# Altium schematic symbol library CGRA_schlib.SchLib: 80 symbols (part 2 of 3)
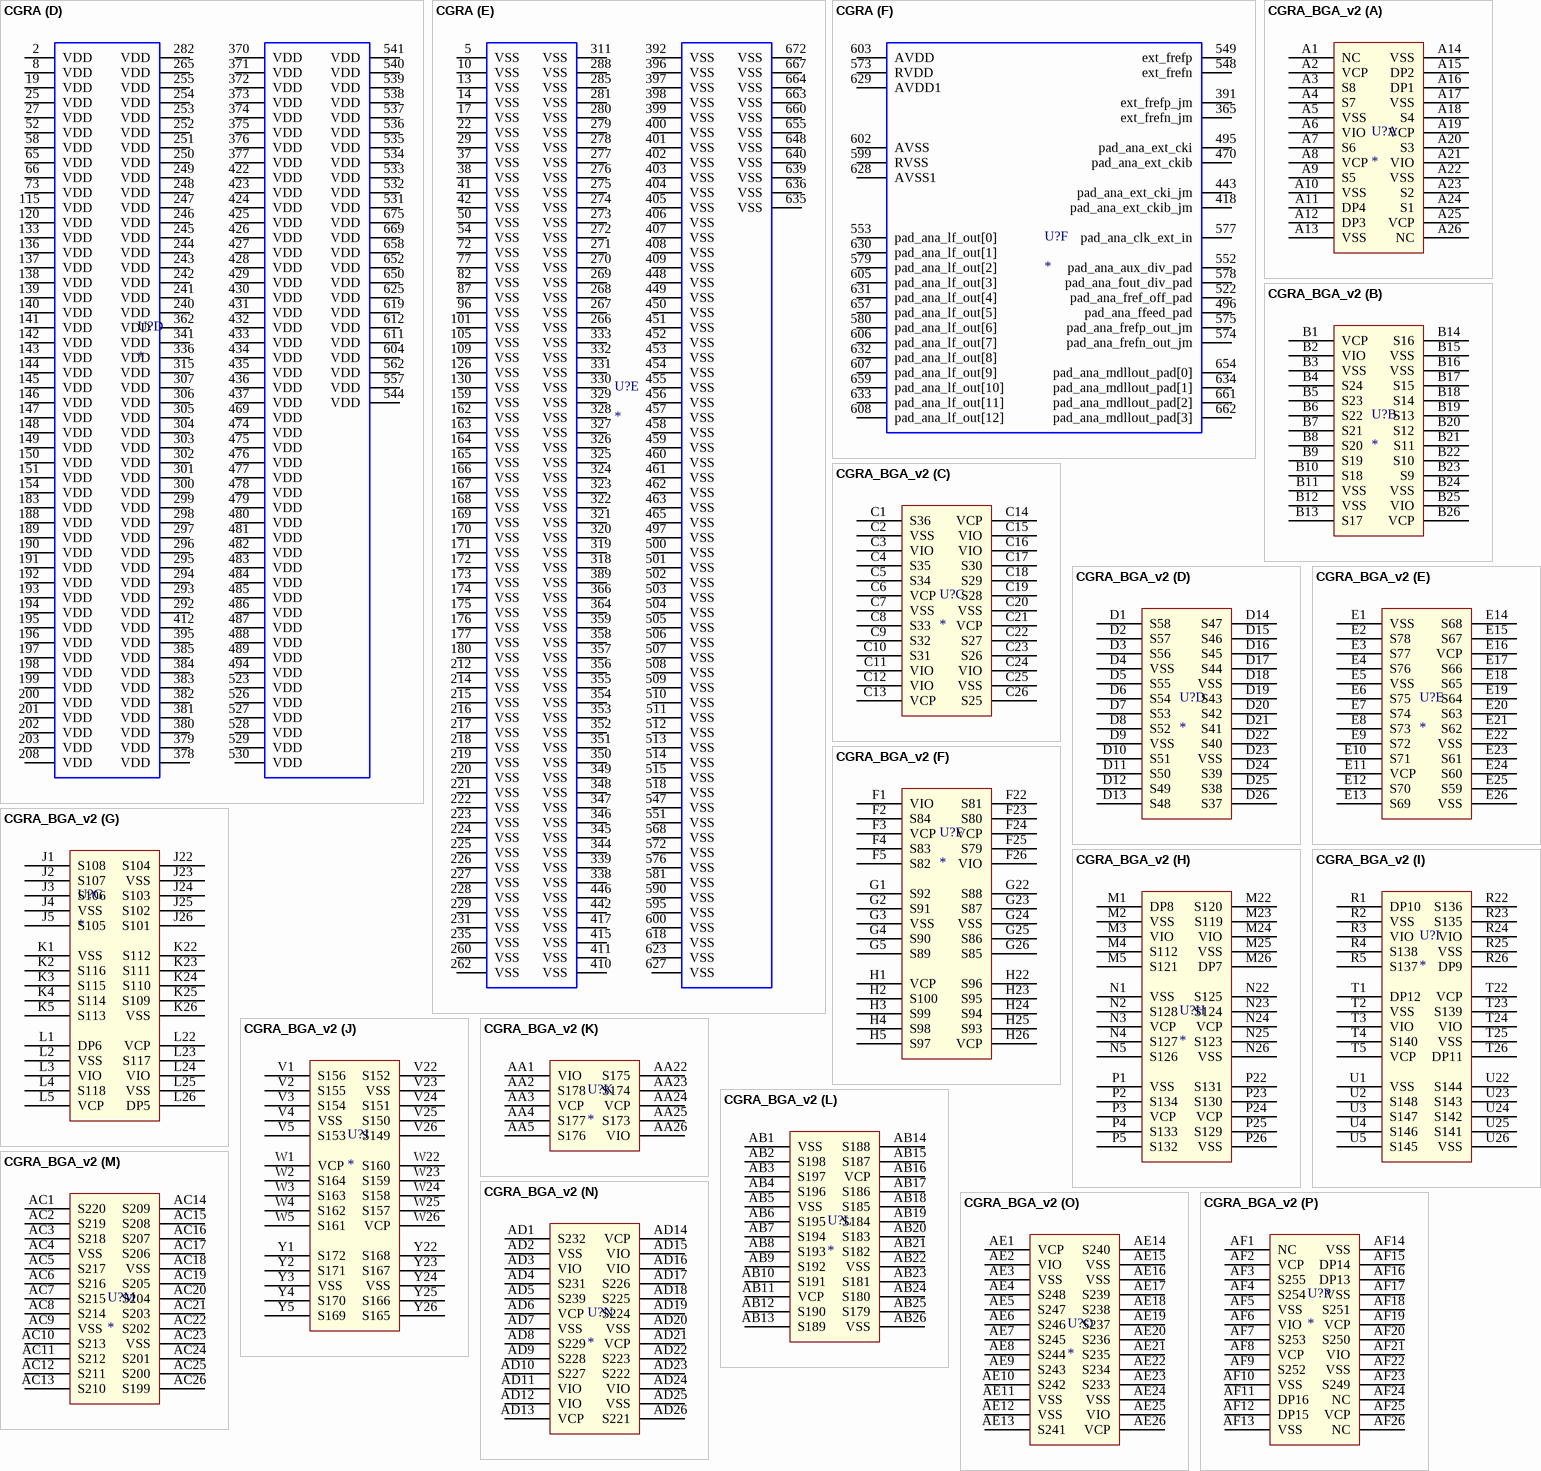
[diagram p4: symbols CGRA to CGRA_BGA_v2]

## CGRA
designator U?
Pads
footprint BGA676x26
part A pins: 3 NC, 26 NC, 30 NC, 32 NC, 33 NC, 35 NC, 36 NC, 43 NC, 44 NC, 46 NC, 47 NC, 48 NC, 49 NC, 56 NC, 57 NC, 59 NC, 60 NC, 61 NC, 62 NC, 69 NC, 70 NC, 71 NC, 74 NC, 75 NC, 83 NC, 84 NC, 85 NC, 86 NC, 88 NC, 89 NC, 90 NC, 91 NC, 92 NC, 93 NC, 94 NC, 95 NC, 97 NC, 98 NC, 99 NC, 100 NC, 102 NC, 103 NC, 107 NC, 108 NC, 110 NC, 111 NC, 112 NC, 113 NC, 114 NC, 116 NC, 117 NC, 118 NC, 119 NC, 121 NC, 122 NC, 123 NC, 124 NC, 125 NC, 127 NC, 128 NC, 129 NC, 134 NC, 135 NC, 152 NC, 153 NC, 160 NC, 161 NC, 178 NC, 179 NC, 181 NC, 185 NC, 186 NC, 187 NC, 204 NC, 205 NC, 206 NC, 211 NC, 213 NC, 230 NC, 232 NC, 233 NC, 237 NC, 238 NC, 239 NC, 256 NC, 257 NC, 258 NC, 259 NC, 264 NC, 283 NC, 290 NC, 291 NC, 308 NC, 309 NC, 316 NC, 317 NC, 334 NC, 335 NC, 340 NC, 342 NC, 343 NC, 360 NC, 361 NC, 368 NC, 369 NC, 386 NC, 387 NC, 394 NC, 413 NC, 419 NC, 420 NC, 421 NC, 438 NC, 439 NC, 440 NC, 441 NC, 444 NC, 445 NC, 447 NC, 464 NC, 466 NC, 467 NC, 471 NC, 472 NC, 473 NC, 490 NC, 491 NC, 492 NC, 498 NC, 499 NC, 516 NC, 517 NC, 519 NC, 524 NC, 525 NC, 542 NC, 543 NC, 550 NC, 554 NC, 555 NC, 556 NC, 558 NC, 559 NC, 560 NC, 561 NC, 563 NC, 564 NC, 565 NC, 566 NC, 567 NC, 569 NC, 570 NC, 571 NC, 582 NC, 583 NC, 584 NC, 585 NC, 586 NC, 588 NC, 589 NC, 591 NC, 592 NC, 594 NC, 596 NC, 597 NC, 598 NC, 651 NC, 653 NC, 676 NC, A1 NC
part B pins: 4 pad_S1_T0, 7 pad_S1_T2, 9 pad_S1_T4, 11 pad_S1_T5, 12 pad_S1_T6, 15 pad_S1_T9, 16 pad_S1_T10, 18 pad_S1_T11, 20 pad_S1_T13, 23 pad_S1_T14, 24 pad_S1_T15, 31 pad_S1_T1, 34 pad_S1_T3, 39 pad_S1_T7, 40 pad_S1_T8, 45 pad_S1_T12, 53 pad_S2_T15, 78 pad_S0_T15, 79 pad_S2_T13, 80 pad_S2_T12, 81 pad_S2_T14, 104 pad_S0_T14, 106 pad_S2_T11, 132 pad_S2_T10, 155 pad_S0_T13, 157 pad_S2_T8, 158 pad_S2_T9, 182 pad_S0_T12, 184 pad_S2_T7, 207 pad_S0_T11, 209 pad_S2_T5, 210 pad_S2_T6, 234 pad_S0_T10, 236 pad_S2_T4, 261 pad_S2_T3, 286 pad_S0_T9, 287 pad_S2_T2, 312 pad_S0_T8, 313 pad_S2_T0, 314 pad_S2_T1, 337 pad_S0_T7, 363 pad_S0_T6, 390 pad_S0_T5, 416 pad_S0_T4, 468 pad_S0_T3, 493 pad_S0_T2, 520 pad_S0_T1, 545 pad_S0_T0, 587 pad_S3_T2, 593 pad_S3_T15, 615 pad_S3_T5, 616 pad_S3_T7, 617 pad_S3_T11, 620 pad_reset_in, 621 pad_tms, 624 pad_trst_n, 637 pad_S3_T0, 638 pad_S3_T1, 641 pad_S3_T6, 642 pad_S3_T9, 643 pad_S3_T10, 644 pad_S3_T13, 645 pad_S3_T14, 646 pad_clk_in, 647 pad_tdi, 665 pad_S3_T3, 666 pad_S3_T4, 668 pad_S3_T8, 670 pad_S3_T12, 673 pad_tdo, 674 pad_tck
part C pins: 6 VDDPST, 21 VDDPST, 28 VDDPST, 51 VDDPST, 55 VDDPST, 63 VDDPST, 64 VDDPST, 67 VDDPST, 68 VDDPST, 76 VDDPST, 131 VDDPST, 156 VDDPST, 263 VDDPST, 284 VDDPST, 289 VDDPST, 310 VDDPST, 367 VDDPST, 388 VDDPST, 393 VDDPST, 414 VDDPST, 521 VDDPST, 546 VDDPST, 601 VDDPST, 609 VDDPST, 610 VDDPST, 613 VDDPST, 614 VDDPST, 622 VDDPST, 626 VDDPST, 649 VDDPST, 656 VDDPST, 671 VDDPST
part D pins: 2 VDD, 8 VDD, 19 VDD, 25 VDD, 27 VDD, 52 VDD, 58 VDD, 65 VDD, 66 VDD, 73 VDD, 115 VDD, 120 VDD, 133 VDD, 136 VDD, 137 VDD, 138 VDD, 139 VDD, 140 VDD, 141 VDD, 142 VDD, 143 VDD, 144 VDD, 145 VDD, 146 VDD, 147 VDD, 148 VDD, 149 VDD, 150 VDD, 151 VDD, 154 VDD, 183 VDD, 188 VDD, 189 VDD, 190 VDD, 191 VDD, 192 VDD, 193 VDD, 194 VDD, 195 VDD, 196 VDD, 197 VDD, 198 VDD, 199 VDD, 200 VDD, 201 VDD, 202 VDD, 203 VDD, 208 VDD, 240 VDD, 241 VDD, 242 VDD, 243 VDD, 244 VDD, 245 VDD, 246 VDD, 247 VDD, 248 VDD, 249 VDD, 250 VDD, 251 VDD, 252 VDD, 253 VDD, 254 VDD, 255 VDD, 265 VDD, 282 VDD, 292 VDD, 293 VDD, 294 VDD, 295 VDD, 296 VDD, 297 VDD, 298 VDD, 299 VDD, 300 VDD, 301 VDD, 302 VDD, 303 VDD, 304 VDD, 305 VDD, 306 VDD, 307 VDD, 315 VDD, 336 VDD, 341 VDD, 362 VDD, 370 VDD, 371 VDD, 372 VDD, 373 VDD, 374 VDD, 375 VDD, 376 VDD, 377 VDD, 378 VDD, 379 VDD, 380 VDD, 381 VDD, 382 VDD, 383 VDD, 384 VDD, 385 VDD, 395 VDD, 412 VDD, 422 VDD, 423 VDD, 424 VDD, 425 VDD, 426 VDD, 427 VDD, 428 VDD, 429 VDD, 430 VDD, 431 VDD, 432 VDD, 433 VDD, 434 VDD, 435 VDD, 436 VDD, 437 VDD, 469 VDD, 474 VDD, 475 VDD, 476 VDD, 477 VDD, 478 VDD, 479 VDD, 480 VDD, 481 VDD, 482 VDD, 483 VDD, 484 VDD, 485 VDD, 486 VDD, 487 VDD, 488 VDD, 489 VDD, 494 VDD, 523 VDD, 526 VDD, 527 VDD, 528 VDD, 529 VDD, 530 VDD, 531 VDD, 532 VDD, 533 VDD, 534 VDD, 535 VDD, 536 VDD, 537 VDD, 538 VDD, 539 VDD, 540 VDD, 541 VDD, 544 VDD, 557 VDD, 562 VDD, 604 VDD, 611 VDD, 612 VDD, 619 VDD, 625 VDD, 650 VDD, 652 VDD, 658 VDD, 669 VDD, 675 VDD
part E pins: 5 VSS, 10 VSS, 13 VSS, 14 VSS, 17 VSS, 22 VSS, 29 VSS, 37 VSS, 38 VSS, 41 VSS, 42 VSS, 50 VSS, 54 VSS, 72 VSS, 77 VSS, 82 VSS, 87 VSS, 96 VSS, 101 VSS, 105 VSS, 109 VSS, 126 VSS, 130 VSS, 159 VSS, 162 VSS, 163 VSS, 164 VSS, 165 VSS, 166 VSS, 167 VSS, 168 VSS, 169 VSS, 170 VSS, 171 VSS, 172 VSS, 173 VSS, 174 VSS, 175 VSS, 176 VSS, 177 VSS, 180 VSS, 212 VSS, 214 VSS, 215 VSS, 216 VSS, 217 VSS, 218 VSS, 219 VSS, 220 VSS, 221 VSS, 222 VSS, 223 VSS, 224 VSS, 225 VSS, 226 VSS, 227 VSS, 228 VSS, 229 VSS, 231 VSS, 235 VSS, 260 VSS, 262 VSS, 266 VSS, 267 VSS, 268 VSS, 269 VSS, 270 VSS, 271 VSS, 272 VSS, 273 VSS, 274 VSS, 275 VSS, 276 VSS, 277 VSS, 278 VSS, 279 VSS, 280 VSS, 281 VSS, 285 VSS, 288 VSS, 311 VSS, 318 VSS, 319 VSS, 320 VSS, 321 VSS, 322 VSS, 323 VSS, 324 VSS, 325 VSS, 326 VSS, 327 VSS, 328 VSS, 329 VSS, 330 VSS, 331 VSS, 332 VSS, 333 VSS, 338 VSS, 339 VSS, 344 VSS, 345 VSS, 346 VSS, 347 VSS, 348 VSS, 349 VSS, 350 VSS, 351 VSS, 352 VSS, 353 VSS, 354 VSS, 355 VSS, 356 VSS, 357 VSS, 358 VSS, 359 VSS, 364 VSS, 366 VSS, 389 VSS, 392 VSS, 396 VSS, 397 VSS, 398 VSS, 399 VSS, 400 VSS, 401 VSS, 402 VSS, 403 VSS, 404 VSS, 405 VSS, 406 VSS, 407 VSS, 408 VSS, 409 VSS, 410 VSS, 411 VSS, 415 VSS, 417 VSS, 442 VSS, 446 VSS, 448 VSS, 449 VSS, 450 VSS, 451 VSS, 452 VSS, 453 VSS, 454 VSS, 455 VSS, 456 VSS, 457 VSS, 458 VSS, 459 VSS, 460 VSS, 461 VSS, 462 VSS, 463 VSS, 465 VSS, 497 VSS, 500 VSS, 501 VSS, 502 VSS, 503 VSS, 504 VSS, 505 VSS, 506 VSS, 507 VSS, 508 VSS, 509 VSS, 510 VSS, 511 VSS, 512 VSS, 513 VSS, 514 VSS, 515 VSS, 518 VSS, 547 VSS, 551 VSS, 568 VSS, 572 VSS, 576 VSS, 581 VSS, 590 VSS, 595 VSS, 600 VSS, 618 VSS, 623 VSS, 627 VSS, 635 VSS, 636 VSS, 639 VSS, 640 VSS, 648 VSS, 655 VSS, 660 VSS, 663 VSS, 664 VSS, 667 VSS, 672 VSS
part F pins: 365 ext_frefn_jm, 391 ext_frefp_jm, 418 pad_ana_ext_ckib_jm, 443 pad_ana_ext_cki_jm, 470 pad_ana_ext_ckib, 495 pad_ana_ext_cki, 496 pad_ana_ffeed_pad, 522 pad_ana_fref_off_pad, 548 ext_frefn, 549 ext_frefp, 552 pad_ana_aux_div_pad, 553 pad_ana_lf_out[0], 573 RVDD, 574 pad_ana_frefn_out_jm, 575 pad_ana_frefp_out_jm, 577 pad_ana_clk_ext_in, 578 pad_ana_fout_div_pad, 579 pad_ana_lf_out[2], 580 pad_ana_lf_out[6], 599 RVSS, 602 AVSS, 603 AVDD, 605 pad_ana_lf_out[3], 606 pad_ana_lf_out[7], 607 pad_ana_lf_out[9], 608 pad_ana_lf_out[12], 628 AVSS1, 629 AVDD1, 630 pad_ana_lf_out[1], 631 pad_ana_lf_out[4], 632 pad_ana_lf_out[8], 633 pad_ana_lf_out[11], 634 pad_ana_mdllout_pad[1], 654 pad_ana_mdllout_pad[0], 657 pad_ana_lf_out[5], 659 pad_ana_lf_out[10], 661 pad_ana_mdllout_pad[2], 662 pad_ana_mdllout_pad[3]

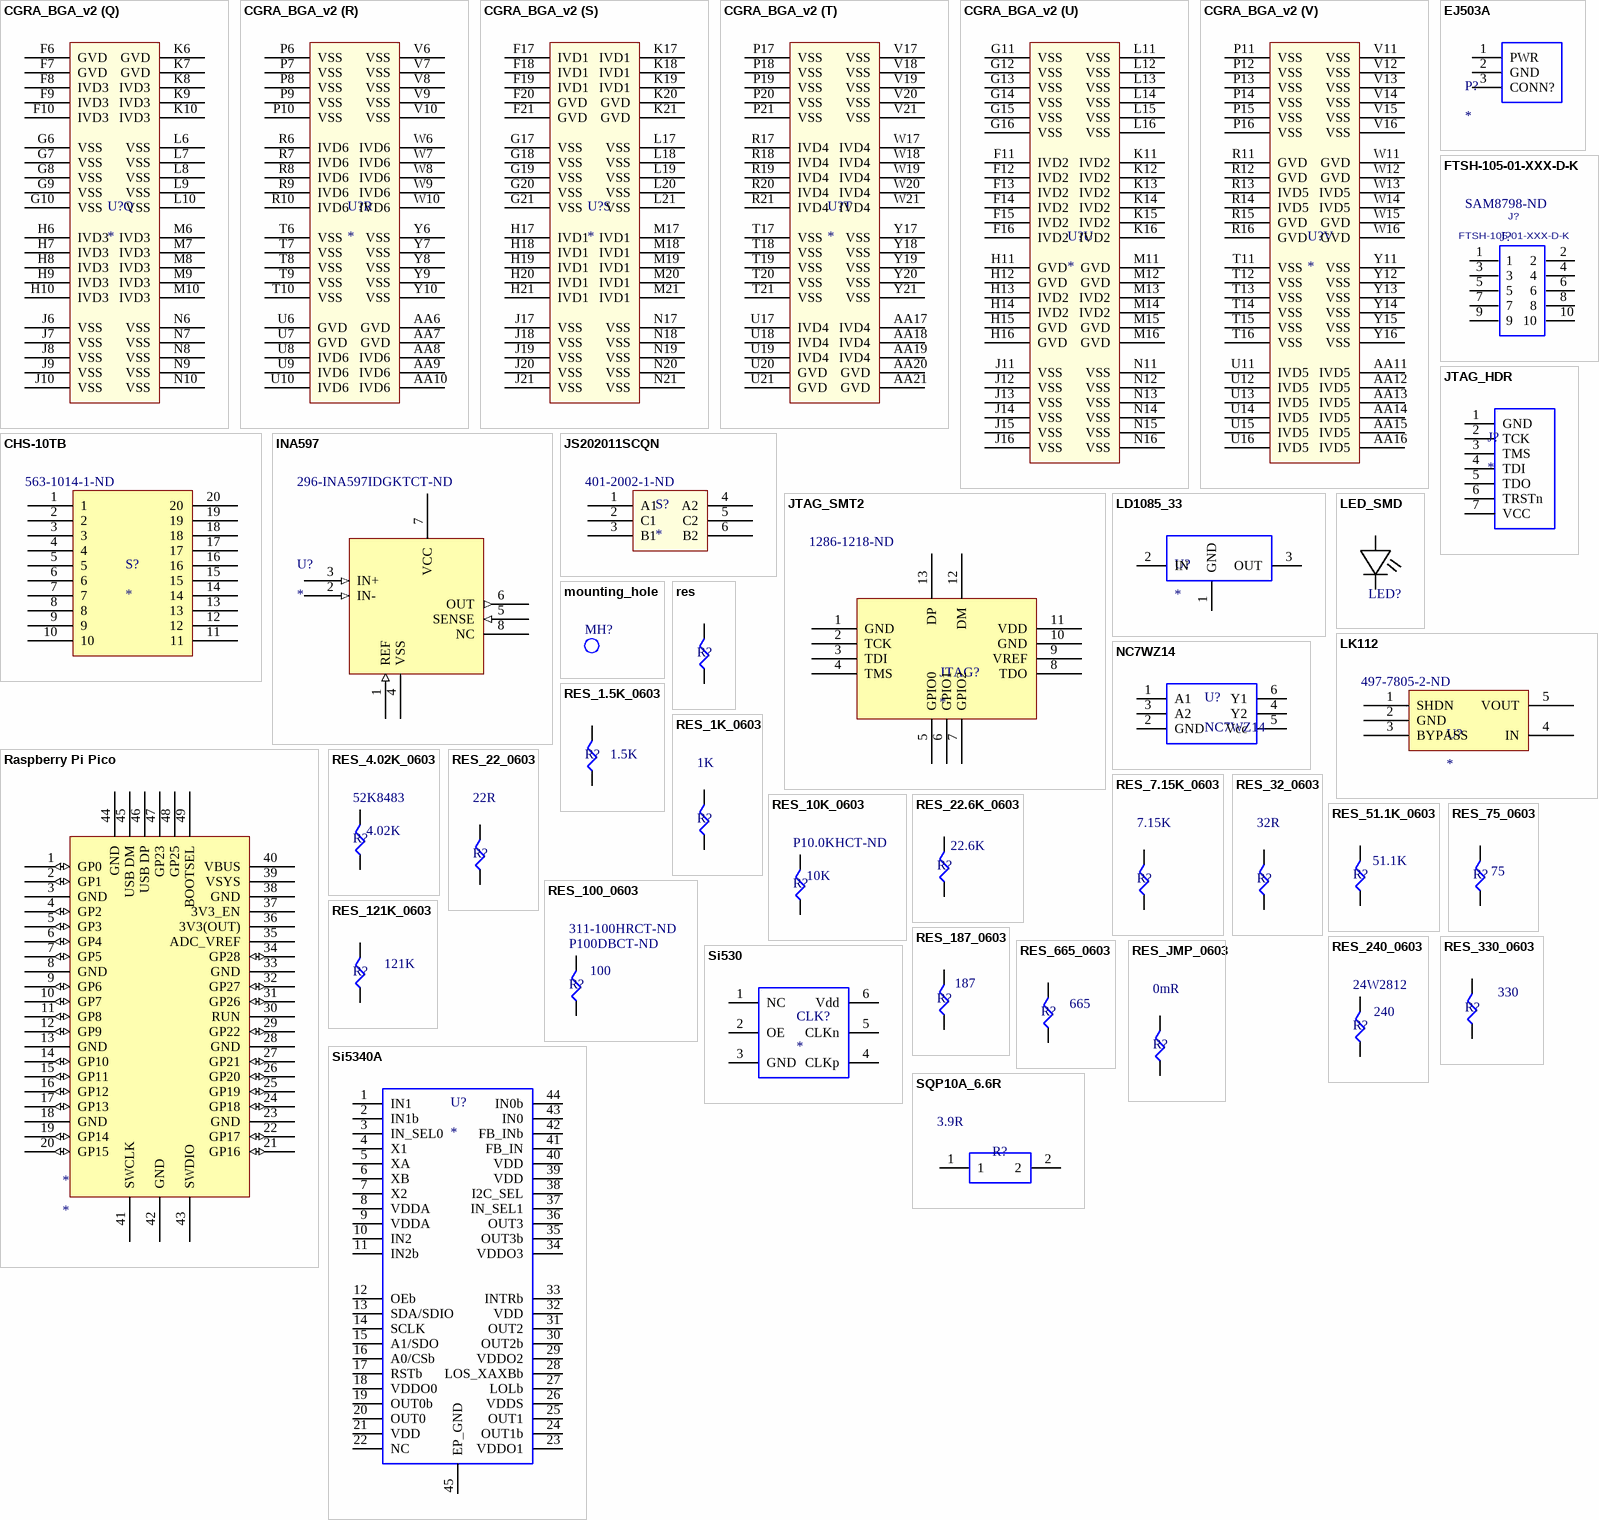
[diagram p2: symbols CGRA_BGA_v2 to SQP10A_6.6R]

## CGRA_BGA_v2
designator U?
footprint BGA676x26
part A pins: A1 NC, A2 VCP, A3 S8, A4 S7, A5 VSS, A6 VIO, A7 S6, A8 VCP, A9 S5, A10 VSS, A11 DP4, A12 DP3, A13 VSS, A14 VSS, A15 DP2, A16 DP1, A17 VSS, A18 S4, A19 VCP, A20 S3, A21 VIO, A22 VSS, A23 S2, A24 S1, A25 VCP, A26 NC
part B pins: B1 VCP, B2 VIO, B3 VSS, B4 S24, B5 S23, B6 S22, B7 S21, B8 S20, B9 S19, B10 S18, B11 VSS, B12 VSS, B13 S17, B14 S16, B15 VSS, B16 VSS, B17 S15, B18 S14, B19 S13, B20 S12, B21 S11, B22 S10, B23 S9, B24 VSS, B25 VIO, B26 VCP
part C pins: C1 S36, C2 VSS, C3 VIO, C4 S35, C5 S34, C6 VCP, C7 VSS, C8 S33, C9 S32, C10 S31, C11 VIO, C12 VIO, C13 VCP, C14 VCP, C15 VIO, C16 VIO, C17 S30, C18 S29, C19 S28, C20 VSS, C21 VCP, C22 S27, C23 S26, C24 VIO, C25 VSS, C26 S25
part D pins: D1 S58, D2 S57, D3 S56, D4 VSS, D5 S55, D6 S54, D7 S53, D8 S52, D9 VSS, D10 S51, D11 S50, D12 S49, D13 S48, D14 S47, D15 S46, D16 S45, D17 S44, D18 VSS, D19 S43, D20 S42, D21 S41, D22 S40, D23 VSS, D24 S39, D25 S38, D26 S37
part E pins: E1 VSS, E2 S78, E3 S77, E4 S76, E5 VSS, E6 S75, E7 S74, E8 S73, E9 S72, E10 S71, E11 VCP, E12 S70, E13 S69, E14 S68, E15 S67, E16 VCP, E17 S66, E18 S65, E19 S64, E20 S63, E21 S62, E22 VSS, E23 S61, E24 S60, E25 S59, E26 VSS
part F pins: F1 VIO, F2 S84, F3 VCP, F4 S83, F5 S82, F22 S81, F23 S80, F24 VCP, F25 S79, F26 VIO, G1 S92, G2 S91, G3 VSS, G4 S90, G5 S89, G22 S88, G23 S87, G24 VSS, G25 S86, G26 S85, H1 VCP, H2 S100, H3 S99, H4 S98, H5 S97, H22 S96, H23 S95, H24 S94, H25 S93, H26 VCP
part G pins: J1 S108, J2 S107, J3 S106, J4 VSS, J5 S105, J22 S104, J23 VSS, J24 S103, J25 S102, J26 S101, K1 VSS, K2 S116, K3 S115, K4 S114, K5 S113, K22 S112, K23 S111, K24 S110, K25 S109, K26 VSS, L1 DP6, L2 VSS, L3 VIO, L4 S118, L5 VCP, L22 VCP, L23 S117, L24 VIO, L25 VSS, L26 DP5
part H pins: M1 DP8, M2 VSS, M3 VIO, M4 S112, M5 S121, M22 S120, M23 S119, M24 VIO, M25 VSS, M26 DP7, N1 VSS, N2 S128, N3 VCP, N4 S127, N5 S126, N22 S125, N23 S124, N24 VCP, N25 S123, N26 VSS, P1 VSS, P2 S134, P3 VCP, P4 S133, P5 S132, P22 S131, P23 S130, P24 VCP, P25 S129, P26 VSS
part I pins: R1 DP10, R2 VSS, R3 VIO, R4 S138, R5 S137, R22 S136, R23 S135, R24 VIO, R25 VSS, R26 DP9, T1 DP12, T2 VSS, T3 VIO, T4 S140, T5 VCP, T22 VCP, T23 S139, T24 VIO, T25 VSS, T26 DP11, U1 VSS, U2 S148, U3 S147, U4 S146, U5 S145, U22 S144, U23 S143, U24 S142, U25 S141, U26 VSS
part J pins: V1 S156, V2 S155, V3 S154, V4 VSS, V5 S153, V22 S152, V23 VSS, V24 S151, V25 S150, V26 S149, W1 VCP, W2 S164, W3 S163, W4 S162, W5 S161, W22 S160, W23 S159, W24 S158, W25 S157, W26 VCP, Y1 S172, Y2 S171, Y3 VSS, Y4 S170, Y5 S169, Y22 S168, Y23 S167, Y24 VSS, Y25 S166, Y26 S165
part K pins: AA1 VIO, AA2 S178, AA3 VCP, AA4 S177, AA5 S176, AA22 S175, AA23 S174, AA24 VCP, AA25 S173, AA26 VIO
part L pins: AB1 VSS, AB2 S198, AB3 S197, AB4 S196, AB5 VSS, AB6 S195, AB7 S194, AB8 S193, AB9 S192, AB10 S191, AB11 VCP, AB12 S190, AB13 S189, AB14 S188, AB15 S187, AB16 VCP, AB17 S186, AB18 S185, AB19 S184, AB20 S183, AB21 S182, AB22 VSS, AB23 S181, AB24 S180, AB25 S179, AB26 VSS
part M pins: AC1 S220, AC2 S219, AC3 S218, AC4 VSS, AC5 S217, AC6 S216, AC7 S215, AC8 S214, AC9 VSS, AC10 S213, AC11 S212, AC12 S211, AC13 S210, AC14 S209, AC15 S208, AC16 S207, AC17 S206, AC18 VSS, AC19 S205, AC20 S204, AC21 S203, AC22 S202, AC23 VSS, AC24 S201, AC25 S200, AC26 S199
part N pins: AD1 S232, AD2 VSS, AD3 VIO, AD4 S231, AD5 S239, AD6 VCP, AD7 VSS, AD8 S229, AD9 S228, AD10 S227, AD11 VIO, AD12 VIO, AD13 VCP, AD14 VCP, AD15 VIO, AD16 VIO, AD17 S226, AD18 S225, AD19 S224, AD20 VSS, AD21 VCP, AD22 S223, AD23 S222, AD24 VIO, AD25 VSS, AD26 S221
part O pins: AE1 VCP, AE2 VIO, AE3 VSS, AE4 S248, AE5 S247, AE6 S246, AE7 S245, AE8 S244, AE9 S243, AE10 S242, AE11 VSS, AE12 VSS, AE13 S241, AE14 S240, AE15 VSS, AE16 VSS, AE17 S239, AE18 S238, AE19 S237, AE20 S236, AE21 S235, AE22 S234, AE23 S233, AE24 VSS, AE25 VIO, AE26 VCP
part P pins: AF1 NC, AF2 VCP, AF3 S255, AF4 S254, AF5 VSS, AF6 VIO, AF7 S253, AF8 VCP, AF9 S252, AF10 VSS, AF11 DP16, AF12 DP15, AF13 VSS, AF14 VSS, AF15 DP14, AF16 DP13, AF17 VSS, AF18 S251, AF19 VCP, AF20 S250, AF21 VIO, AF22 VSS, AF23 S249, AF24 NC, AF25 VCP, AF26 NC
part Q pins: F6 GVD, F7 GVD, F8 IVD3, F9 IVD3, F10 IVD3, G6 VSS, G7 VSS, G8 VSS, G9 VSS, G10 VSS, H6 IVD3, H7 IVD3, H8 IVD3, H9 IVD3, H10 IVD3, J6 VSS, J7 VSS, J8 VSS, J9 VSS, J10 VSS, K6 GVD, K7 GVD, K8 IVD3, K9 IVD3, K10 IVD3, L6 VSS, L7 VSS, L8 VSS, L9 VSS, L10 VSS, M6 IVD3, M7 IVD3, M8 IVD3, M9 IVD3, M10 IVD3, N6 VSS, N7 VSS, N8 VSS, N9 VSS, N10 VSS
part R pins: AA6 GVD, AA7 GVD, AA8 IVD6, AA9 IVD6, AA10 IVD6, P6 VSS, P7 VSS, P8 VSS, P9 VSS, P10 VSS, R6 IVD6, R7 IVD6, R8 IVD6, R9 IVD6, R10 IVD6, T6 VSS, T7 VSS, T8 VSS, T9 VSS, T10 VSS, U6 GVD, U7 GVD, U8 IVD6, U9 IVD6, U10 IVD6, V6 VSS, V7 VSS, V8 VSS, V9 VSS, V10 VSS, W6 IVD6, W7 IVD6, W8 IVD6, W9 IVD6, W10 IVD6, Y6 VSS, Y7 VSS, Y8 VSS, Y9 VSS, Y10 VSS
part S pins: F17 IVD1, F18 IVD1, F19 IVD1, F20 GVD, F21 GVD, G17 VSS, G18 VSS, G19 VSS, G20 VSS, G21 VSS, H17 IVD1, H18 IVD1, H19 IVD1, H20 IVD1, H21 IVD1, J17 VSS, J18 VSS, J19 VSS, J20 VSS, J21 VSS, K17 IVD1, K18 IVD1, K19 IVD1, K20 GVD, K21 GVD, L17 VSS, L18 VSS, L19 VSS, L20 VSS, L21 VSS, M17 IVD1, M18 IVD1, M19 IVD1, M20 IVD1, M21 IVD1, N17 VSS, N18 VSS, N19 VSS, N20 VSS, N21 VSS
part T pins: AA17 IVD4, AA18 IVD4, AA19 IVD4, AA20 GVD, AA21 GVD, P17 VSS, P18 VSS, P19 VSS, P20 VSS, P21 VSS, R17 IVD4, R18 IVD4, R19 IVD4, R20 IVD4, R21 IVD4, T17 VSS, T18 VSS, T19 VSS, T20 VSS, T21 VSS, U17 IVD4, U18 IVD4, U19 IVD4, U20 GVD, U21 GVD, V17 VSS, V18 VSS, V19 VSS, V20 VSS, V21 VSS, W17 IVD4, W18 IVD4, W19 IVD4, W20 IVD4, W21 IVD4, Y17 VSS, Y18 VSS, Y19 VSS, Y20 VSS, Y21 VSS
part U pins: F11 IVD2, F12 IVD2, F13 IVD2, F14 IVD2, F15 IVD2, F16 IVD2, G11 VSS, G12 VSS, G13 VSS, G14 VSS, G15 VSS, G16 VSS, H11 GVD, H12 GVD, H13 IVD2, H14 IVD2, H15 GVD, H16 GVD, J11 VSS, J12 VSS, J13 VSS, J14 VSS, J15 VSS, J16 VSS, K11 IVD2, K12 IVD2, K13 IVD2, K14 IVD2, K15 IVD2, K16 IVD2, L11 VSS, L12 VSS, L13 VSS, L14 VSS, L15 VSS, L16 VSS, M11 GVD, M12 GVD, M13 IVD2, M14 IVD2, M15 GVD, M16 GVD, N11 VSS, N12 VSS, N13 VSS, N14 VSS, N15 VSS, N16 VSS
part V pins: AA11 IVD5, AA12 IVD5, AA13 IVD5, AA14 IVD5, AA15 IVD5, AA16 IVD5, P11 VSS, P12 VSS, P13 VSS, P14 VSS, P15 VSS, P16 VSS, R11 GVD, R12 GVD, R13 IVD5, R14 IVD5, R15 GVD, R16 GVD, T11 VSS, T12 VSS, T13 VSS, T14 VSS, T15 VSS, T16 VSS, U11 IVD5, U12 IVD5, U13 IVD5, U14 IVD5, U15 IVD5, U16 IVD5, V11 VSS, V12 VSS, V13 VSS, V14 VSS, V15 VSS, V16 VSS, W11 GVD, W12 GVD, W13 IVD5, W14 IVD5, W15 GVD, W16 GVD, Y11 VSS, Y12 VSS, Y13 VSS, Y14 VSS, Y15 VSS, Y16 VSS

## CHS-10TB
designator S?  Supplier Part Number 1: 563-1014-1-ND
Supplier 1: Digi-Key
footprint SOIC127P800X250-20N (SOIC, 20-Leads, Body 14.30x5.40mm, Pitch 1.27mm, IPC Medium Density)
pins: 1, 2, 3, 4, 5, 6, 7, 8, 9, 10, 11, 12, 13, 14, 15, 16, 17, 18, 19, 20

## EJ503A
designator P?
CONN PWR JACK 2.1X5.5MM SOLDER; Manufacturer: Memory Protection Devices; Manufacturer Part Number: EJ503A; Supplier 1: Digi-Key; Stock 1: 1129; Pricing 1: 1=2.7, 10=2.447, 100=2.0977, 500=1.74806, 1000=1.49834 (USD); Supplier Part Number 1: EJ503A-ND
footprint BARREL
pins: 1 PWR, 2 GND, 3 CONN?

## FTSH-105-01-XXX-D-K
designator J?  Supplier Part Number 1: SAM8798-ND
CONN HEADER 10POS DUAL .05" T/H; Manufacturer: Samtec; Manufacturer Part Number: FTSH-105-01-L-D-K; Number of Positions: 10; Gender: Male; Connector Type: Male Pin; Pitch: 1.27mm; Row Spacing: 0.05inch; ComponentLink1URL: http://www.samtec.com/documents/webfiles/cpdf/FTSH-1XX-XX-XXX-DV-XXX-MKT.pdf; ComponentLink1Description: http://www.samtec.com/documents/webfiles/cpdf/FTSH-1XX-XX-XXX-DV-XXX-MKT.pdf; ComponentLink2URL: http://www.samtec.com/documents/webfiles/pdf/ftsh_mt.pdf; ComponentLink2Description: http://www.samtec.com/documents/webfiles/pdf/ftsh_mt.pdf; ComponentLink3URL: http://www.samtec.com/documents/webfiles/pdf/FTSH_SMT.PDF; ComponentLink3Description: http://www.samtec.com/documents/webfiles/pdf/FTSH_SMT.PDF; ComponentLink4URL: https://www.verical.com/server-webapp/html/getDatasheet?partID=175877; ComponentLink4Description: https://www.verical.com/server-webapp/html/getDatasheet?partID=175877; Supplier 1: Digi-Key; Stock 1: 5918; Pricing 1: 1=2.98, 92=2.49902, 184=2.38, 552=2.02301, 1012=1.7255, 5060=1.547 (USD); Mount: Through Hole; Contact Plating: Gold; Contact Material: Bronze; Colour: Black; Housing Colour: Black; Housing Material: Polymer; Min Operating Temperature: -55°C; Max Operating Temperature: 125°C; Number of Rows: 2; Packaging: Rail/Tube; Package Quantity: 1; Termination: Solder; Number of Contacts: 10; Orientation: Straight; Length: 6.35mm; Contact Mating Length: 0.12inch; Depth: 3.43mm; Radiation Hardening: No; ComponentLink5URL: http://www.samtec.com/documents/webfiles/cpdf/FTSH-1XX-XX-XXX-D-XX-MKT.pdf; ComponentLink5Description: http://www.samtec.com/documents/webfiles/cpdf/FTSH-1XX-XX-XXX-D-XX-MKT.pdf
footprint FTSH-105-01-XXX-D-K
pins: 1, 2, 3, 4, 5, 6, 7, 8, 9, 10

## INA597
designator U?  Supplier Part Number 1: 296-INA597IDGKTCT-ND
Supplier 1: Digi-Key
footprint TSOP65P490X110-8N (TSOP, 8-Leads, Body 3.00x3.00mm, Pitch 0.65mm, IPC Medium Density)
pins: 1 REF (in), 2 IN- (in), 3 IN+ (in), 4 VSS (power), 5 SENSE (in), 6 OUT (out), 7 VCC (power), 8 NC

## JS202011SCQN
designator S?  Supplier Part Number 1: 401-2002-1-ND
Supplier 1: Digi-Key
footprint JS202011SCQN_auto (SOP, 6-Leads, Body 9.00x3.00mm, Pitch 2.50mm, IPC Medium Density)
pins: 1 A1, 2 C1, 3 B1, 4 A2, 5 C2, 6 B2

## JTAG_HDR
designator J?
pins: 1 GND, 2 TCK, 3 TMS, 4 TDI, 5 TDO, 6 TRSTn, 7 VCC

## JTAG_SMT2
designator JTAG?  Supplier Part Number 1: 1286-1218-ND
Supplier 1: Digi-Key
footprint JTAG_SMT2
pins: 1 GND, 2 TCK, 3 TDI, 4 TMS, 5 GPIO0, 6 GPIO1, 7 GPIO2, 8 TDO, 9 VREF, 10 GND, 11 VDD, 12 DM, 13 DP

## LD1085_33
designator U?
STMICROELECTRONICS         LD1085D2T33R            Fixed LDO Voltage Regulator, 6.3V to 30V, 1.3V Dropout, 3.3Vout, 3Aout, TO-263-3; Number of Outputs: 1; Max Output Current: 3A; Output Voltage: 3.3V; Min Supply Voltage: 4.9V; Input Bias Current: 5mA; Polarity: Positive; Quiescent Current: 10mA; Max Output Voltage: 3.333V; Accuracy: 1%; Supplier 1: Digi-Key; Manufacturer: STMicroelectronics; Manufacturer Part Number: LD1085D2T33R; Stock 1: 2959; Pricing 1: 1=1.34, 10=1.2, 100=0.9357, 500=0.77296 (USD); Mount: Surface Mount; Case/Package: TO-263; Number of Pins: 3; Weight: 0.01lb; Contact Plating: Matte,Tin; Min Operating Temperature: -40°C; Max Operating Temperature: 125°C; Packaging: Tape and Reel; Max Input Voltage: 30V; Dropout Voltage: 1.3V; Output Current: 3A; Max Supply Voltage: 30V; Package Quantity: 1; Min Input Voltage: 6.3V; Nominal Output Voltage: 3.3V; Number of Regulators: 1; Min Output Voltage: 3.3V; Termination: SMD/SMT; Output Voltage Accuracy: 1%; Output Type: Fixed; Length: 10.4mm; Height: 4.6mm; Width: 9.35mm; Radiation Hardening: No; REACH SVHC: No SVHC; Lead Free: Lead Free; Supplier Part Number 1: 497-1222-1-ND
footprint D2Pak
pins: 1 GND, 2 IN, 3 OUT

## LED_SMD
designator LED?  (value not drawn)
Red 620nm LED Indication - Discrete 2.2V 0603 (1608 Metric); Manufacturer: Rohm; Manufacturer Part Number: SML-D12U1WT86; Lens Colour: White; Lens Transparency: Diffused; Luminous Intensity: 63mcd; Test Current: 20mA; Supplier 1: Digi-Key; Stock 1: 78000; Pricing 1: 3000=0.03565, 6000=0.031, 15000=0.0279, 30000=0.0248, 75000=0.02248, 150000=0.0217 (USD); Mount: Surface Mount; Case/Package: 0603; Colour: Red; Case Code (Metric): 1608; Case Code (Imperial): 0603; Packaging: Tape and Reel; Dominant Wavelength: 620nm; Forward Voltage: 2.2V; Length: 1.6mm; Height: 0.65mm; Width: 0.8mm; Lead Free: Lead Free; Supplier Part Number 1: SML-D12U1WT86TR-ND
footprint DIOC1608X06N (Chip Diode, 2-Leads, Body 1.55x0.80mm, IPC Medium Density)
pins: 1 ANODE, 2 CATHODE

## LK112
designator U?  Supplier Part Number 1: 497-7805-2-ND
1.5V regulator; ComponentLink1Description: TCR2LF085; ComponentLink1URL: https://www.digikey.com/en/products/detail/toshiba-semiconductor-and-storage/TCR2LF085-LM-CT/10379974; Supplier 1: Digi-Key
footprint SOT95P280X110-5N (SOT23, 5-Leads, Body 2.90x2.80mm, Pitch 0.95mm, IPC Medium Density)
pins: 1 SHDN, 2 GND, 3 BYPASS, 4 IN, 5 VOUT

## mounting_hole
designator MH?  (value not drawn)
STDOFF HEX M/F 6-32 .375"L ALUM; Manufacturer: Keystone Electronics; Manufacturer Part Number: 8413; Plating: Iridite; Gender: Male to Female; Threaded/Unthreaded: Threaded; Outside Diameter: 0.25inch; Supplier 1: Digi-Key; Stock 1: 38123; Pricing 1: 1=0.57, 10=0.427, 50=0.3414, 100=0.3272, 250=0.29872, 1000=0.2388, 2500=0.2134, 5000=0.20626 (USD); Mount: External; Case/Package: Aluminum; Colour: Natural; Material: Aluminium; Shape: Hex; Package Quantity: 100; Packaging: Bulk; Diameter: 0.25inch; Length: 0.375inch; Width: 6.35mm; Lead Free: Lead Free; REACH SVHC: Unknown; ComponentLink1URL: https://www.alliedelec.com/m/d/85e7438347207162e11b385d8b414d1f.pdf; ComponentLink1Description: https://www.alliedelec.com/m/d/85e7438347207162e11b385d8b414d1f.pdf; ComponentLink2URL: http://www.farnell.com/datasheets/1910226.pdf; ComponentLink2Description: http://www.farnell.com/datasheets/1910226.pdf; ComponentLink3URL: http://www.keyelco.com/userAssets/file/M60-2p70.pdf; ComponentLink3Description: http://www.keyelco.com/userAssets/file/M60-2p70.pdf; Supplier Part Number 1: 36-8413-ND
footprint MH

## NC7WZ14
designator U?
INVERTER 2 CHANNEL; DIGIKEY: NC7WZ14P6XCT
footprint SOT65P210X100-6N (SOT23, 6-Leads, Body 2.00x2.10mm, Pitch 0.65mm, IPC Medium Density)
pins: 1 A1, 2 GND, 3 A2, 4 Y2, 5 Vcc, 6 Y1

## Raspberry Pi Pico
designator *
footprint RPI_PICO
pins: 1 GP0 (io), 2 GP1 (io), 3 GND (power), 4 GP2 (io), 5 GP3 (io), 6 GP4 (io), 7 GP5 (io), 8 GND (power), 9 GP6 (io), 10 GP7 (io), 11 GP8 (io), 12 GP9 (io), 13 GND (power), 14 GP10 (io), 15 GP11 (io), 16 GP12 (io), 17 GP13 (io), 18 GND (power), 19 GP14 (io), 20 GP15 (io), 21 GP16 (io), 22 GP17 (io), 23 GND (power), 24 GP18 (io), 25 GP19 (io), 26 GP20 (io), 27 GP21 (io), 28 GND (power), 29 GP22 (io), 30 RUN, 31 GP26 (io), 32 GP27 (io), 33 GND (power), 34 GP28 (io), 35 ADC_VREF, 36 3V3(OUT) (power), 37 3V3_EN (power), 38 GND (power), 39 VSYS (power), 40 VBUS (power), 41 SWCLK, 42 GND (power), 43 SWDIO, 44 GND, 45 USB DM, 46 USB DP, 47 GP23, 48 GP25, 49 BOOTSEL

## res
designator R?  (value not drawn)
Resistance: *
footprint RESC0603X03N (Chip Resistor, 2-Leads, Body 0.60x0.30mm, IPC Medium Density)
footprint RESC1005X06N (Chip Resistor, 2-Leads, Body 1.00x0.50mm, IPC Medium Density)
pins: 1, 2

## RES_1.5K_0603
designator R?  Resistance: 1.5K  (hidden comment: *)
Yageo RC Series Thick Film Surface Mount Resistor 0603 Case 1500 1% 0.1W 100ppm/C; Manufacturer: Yageo Phycomp; Manufacturer Part Number: RC0603FR-071K5L; Temperature Coefficient: 100ppm/°C; Voltage Rating (DC): 50V; Power Rating: 100mW; ComponentLink1URL: https://www.rohm.com/datasheet/ESR01MZPF/esr-e; ComponentLink1Description: https://www.rohm.com/datasheet/ESR01MZPF/esr-e; Supplier 1: Digi-Key; Stock 1: 8066384; Pricing 1: 1=0.1, 10=0.026, 100=0.0107, 1000=0.00478, 2500=0.00415 (USD); Mount: Surface Mount; Case/Package: 0603; Number of Pins: 2; Min Operating Temperature: -55°C; Max Operating Temperature: 155°C; Tolerance: 1%; Packaging: Cut Tape; Length: 1.6mm; Height: 0.45mm; Width: 800um; Depth: 0.8mm; REACH SVHC: No SVHC; Lead Free: Lead Free; Supplier Part Number 1: 311-1.50KHRCT-ND
footprint RESC1608X06N (Chip Resistor, 2-Leads, Body 1.60x0.80mm, IPC Medium Density)
pins: 1, 2

## RES_1K_0603
designator R?  Resistance: 1K  (hidden comment: *)
RES SMD 1K OHM 5% 1/4W 0603; Manufacturer: Rohm; Manufacturer Part Number: ESR03EZPJ102; Temperature Coefficient: 200ppm/°C; Max Power Dissipation: 250mW; ComponentLink1URL: https://www.rohm.com/datasheet/ESR01MZPF/esr-e; ComponentLink1Description: https://www.rohm.com/datasheet/ESR01MZPF/esr-e; Supplier 1: Digi-Key; Stock 1: 381742; Pricing 1: 1=0.1, 10=0.087, 100=0.0333, 1000=0.01464, 2500=0.01264 (USD); Case/Package: 0603; Case Code (Metric): 1608; Case Code (Imperial): 0603; Min Operating Temperature: -55°C; Max Operating Temperature: 155°C; Tolerance: 5%; Package Quantity: 1; Packaging: Tape and Reel; Composition: Thick Film; Number of Terminations: 2; Features: Automotive AEC-Q200; Length: 0.063inch; Height: 0.022inch; Width: 0.031inch; Lead Free: Lead Free; Supplier Part Number 1: RHM1.0KDCT-ND
footprint RESC1608X06N (Chip Resistor, 2-Leads, Body 1.60x0.80mm, IPC Medium Density)
pins: 1, 2

## RES_4.02K_0603
designator R?  Resistance: 4.02K  Supplier Part Number 1: 52K8483  (hidden comment: *)
RES SMD 10K OHM 1% 1/4W 0603; Manufacturer: Rohm; Manufacturer Part Number: ESR03EZPF1002; Power Rating: 250mW; Temperature Coefficient: 100ppm/°C; Stock 1: 273579; Pricing 1: 1=0.14, 10=0.126, 100=0.0484, 1000=0.0213, 2500=0.01839 (USD); Case/Package: 0603; Case Code (Metric): 1608; Case Code (Imperial): 0603; Min Operating Temperature: -55°C; Max Operating Temperature: 155°C; Tolerance: 1%; Package Quantity: 1; Packaging: Tape and Reel; Composition: Thick Film; Number of Terminations: 2; Max Power Dissipation: 250mW; Features: Automotive AEC-Q200; Length: 0.063inch; Height: 0.022inch; Width: 0.031inch; Lead Free: Lead Free; ComponentLink1URL: https://www.rohm.com/datasheet/ESR01MZPF/esr-e; ComponentLink1Description: https://www.rohm.com/datasheet/ESR01MZPF/esr-e; Supplier 1: Newark
footprint RESC1608X06N (Chip Resistor, 2-Leads, Body 1.60x0.80mm, IPC Medium Density)
pins: 1, 2

## RES_7.15K_0603
designator R?  Resistance: 7.15K  (hidden comment: *)
RESISTOR, 7K15, 0603, FULL REEL; Manufacturer: Panasonic; Manufacturer Part Number: ERA-3AEB7151V; Tolerance: 1%; Power Rating: 100mW; Voltage Rating: 75V; Temperature Coefficient: 25ppm/°C; ComponentLink1URL: https://www.rohm.com/datasheet/ESR01MZPF/esr-e; ComponentLink1Description: https://www.rohm.com/datasheet/ESR01MZPF/esr-e; ComponentLink2URL: http://www.farnell.com/datasheets/485442.pdf; ComponentLink2Description: http://www.farnell.com/datasheets/485442.pdf; ComponentLink3URL: http://industrial.panasonic.com/www-data/pdf/AOA0000/AOA0000CE26.pdf; ComponentLink3Description: http://industrial.panasonic.com/www-data/pdf/AOA0000/AOA0000CE26.pdf; ComponentLink4URL: http://uk.rs-online.com/webdocs/0eb1/0900766b80eb1d8c.pdf; ComponentLink4Description: http://uk.rs-online.com/webdocs/0eb1/0900766b80eb1d8c.pdf; Supplier 1: Digi-Key; Stock 1: 94530; Pricing 1: 1=0.35, 10=0.3, 100=0.1172, 1000=0.04906, 2500=0.04498 (USD); Mount: Surface Mount; Case/Package: 0603; Number of Pins: 2; Weight: 7.1E-05oz; Case Code (Metric): 1608; Case Code (Imperial): 0603; Contact Plating: Tin; Min Operating Temperature: -55°C; Max Operating Temperature: 155°C; Packaging: Tape and Reel; Package Quantity: 1; Composition: Metal Film,Thin Film; Number of Terminations: 2; Termination: SMD/SMT; Military Standard: Not; Max Power Dissipation: 100mW; Voltage Rating (DC): 75V; Features: Automotive AEC-Q200; Length: 1.6mm; Height: 0.45mm; Width: 0.8mm; Depth: 0.8mm; Radiation Hardening: No; REACH SVHC: No SVHC; Lead Free: Lead Free; ComponentLink5URL: http://www.mouser.com/ds/2/315/AOA0000C237-1100991.pdf; ComponentLink5Description: http://www.mouser.com/ds/2/315/AOA0000C237-1100991.pdf; Supplier Part Number 1: P7.15KDBCT-ND
footprint RESC1608X06N (Chip Resistor, 2-Leads, Body 1.60x0.80mm, IPC Medium Density)
pins: 1, 2

## RES_10K_0603
designator R?  Resistance: 10K  Supplier Part Number 1: P10.0KHCT-ND  (hidden comment: *)
RES SMD 10K OHM 1% 1/4W 0603; Manufacturer: Rohm; Manufacturer Part Number: ESR03EZPF1002; Power Rating: 250mW; Temperature Coefficient: 100ppm/°C; Stock 1: 273579; Pricing 1: 1=0.14, 10=0.126, 100=0.0484, 1000=0.0213, 2500=0.01839 (USD); Case/Package: 0603; Case Code (Metric): 1608; Case Code (Imperial): 0603; Min Operating Temperature: -55°C; Max Operating Temperature: 155°C; Tolerance: 1%; Package Quantity: 1; Packaging: Tape and Reel; Composition: Thick Film; Number of Terminations: 2; Max Power Dissipation: 250mW; Features: Automotive AEC-Q200; Length: 0.063inch; Height: 0.022inch; Width: 0.031inch; Lead Free: Lead Free; ComponentLink1URL: https://www.rohm.com/datasheet/ESR01MZPF/esr-e; ComponentLink1Description: https://www.rohm.com/datasheet/ESR01MZPF/esr-e; Supplier 1: Digi-Key
footprint RESC1608X06N (Chip Resistor, 2-Leads, Body 1.60x0.80mm, IPC Medium Density)
pins: 1, 2

## RES_22.6K_0603
designator R?  Resistance: 22.6K  (hidden comment: *)
RESISTOR, 22K6, 0603, 0.1%, 0.1W; Manufacturer: Panasonic; Manufacturer Part Number: ERA3AEB2262V; Temperature Coefficient: 25ppm/°C; Max Power Dissipation: 100mW; Voltage Rating: 75V; ComponentLink1URL: https://www.rohm.com/datasheet/ESR01MZPF/esr-e; ComponentLink1Description: https://www.rohm.com/datasheet/ESR01MZPF/esr-e; ComponentLink2URL: http://www.farnell.com/datasheets/485442.pdf; ComponentLink2Description: http://www.farnell.com/datasheets/485442.pdf; ComponentLink3URL: http://industrial.panasonic.com/www-data/pdf/AOA0000/AOA0000CE26.pdf; ComponentLink3Description: http://industrial.panasonic.com/www-data/pdf/AOA0000/AOA0000CE26.pdf; ComponentLink4URL: http://uk.rs-online.com/webdocs/0eb1/0900766b80eb1d8c.pdf; ComponentLink4Description: http://uk.rs-online.com/webdocs/0eb1/0900766b80eb1d8c.pdf; ComponentLink5URL: http://www.mouser.com/ds/2/315/AOA0000C237-1100991.pdf; ComponentLink5Description: http://www.mouser.com/ds/2/315/AOA0000C237-1100991.pdf; Supplier 1: Digi-Key; Stock 1: 11763; Pricing 1: 1=0.35, 10=0.3, 100=0.1172, 1000=0.04906, 2500=0.04498 (USD); Mount: Surface Mount; Case/Package: 0603; Number of Pins: 2; Weight: 7.1E-05oz; Case Code (Metric): 1608; Case Code (Imperial): 0603; Contact Plating: Tin; Min Operating Temperature: -55°C; Max Operating Temperature: 155°C; Tolerance: 0.1%; Packaging: Tape and Reel; Composition: Metal Film,Thin Film; Number of Terminations: 2; Power Rating: 100mW; Package Quantity: 5000; Voltage Rating (DC): 75V; Termination: SMD/SMT; Military Standard: Not; Length: 1.6mm; Height: 0.45mm; Width: 0.8mm; Depth: 0.8mm; Radiation Hardening: No; Lead Free: Lead Free; REACH SVHC: No SVHC; ComponentLink6URL: http://www.farnell.com/datasheets/2059650.pdf; ComponentLink6Description: http://www.farnell.com/datasheets/2059650.pdf; ComponentLink7URL: http://www.produktinfo.conrad.com/datenblaetter/1100000-1199999/001180886-da-01-en-WIDERSTAND_ERA_0603_22K6_0_1__5000ST.pdf; ComponentLink7Description: http://www.produktinfo.conrad.com/datenblaetter/1100000-1199999/001180886-da-01-en-WIDERSTAND_ERA_0603_22K6_0_1__5000ST.pdf; Supplier Part Number 1: P22.6KDBCT-ND
footprint RESC1608X06N (Chip Resistor, 2-Leads, Body 1.60x0.80mm, IPC Medium Density)
pins: 1, 2

## RES_22_0603
designator R?  Resistance: 22R  (hidden comment: *)
RES SMD 22 OHM 1% 1/8W 0603; Manufacturer: Vishay Beyschlag; Manufacturer Part Number: MCT06030C2209FP500; Power Rating: 125mW; Voltage Rating: 75V; Temperature Coefficient: 50ppm/°C; ComponentLink1URL: https://www.rohm.com/datasheet/ESR01MZPF/esr-e; ComponentLink1Description: https://www.rohm.com/datasheet/ESR01MZPF/esr-e; Supplier 1: Digi-Key; Stock 1: 25793; Pricing 1: 1=0.27, 10=0.229, 100=0.0894, 1000=0.03742, 2500=0.0343 (USD); Case/Package: 0603; Case Code (Metric): 1608; Case Code (Imperial): 0603; Contact Plating: Tin; Min Operating Temperature: -55°C; Max Operating Temperature: 125°C; Package Quantity: 1; Tolerance: 1%; Packaging: Tape and Reel; Composition: Thin Film; Number of Terminations: 2; Military Standard: Not; Max Power Dissipation: 125mW; Voltage Rating (DC): 75V; Length: 0.061inch; Height: 0.022inch; Width: 0.033inch; Depth: 0.85mm; Radiation Hardening: No; REACH SVHC: No SVHC; Lead Free: Lead Free; ComponentLink2URL: http://www.vishay.com/docs/28705/mcx0x0xpro.pdf; ComponentLink2Description: http://www.vishay.com/docs/28705/mcx0x0xpro.pdf; ComponentLink3URL: http://www.vishay.com/docs/28705/mc_pro.pdf; ComponentLink3Description: http://www.vishay.com/docs/28705/mc_pro.pdf; Supplier Part Number 1: MCT0603-22.0-CFCT-ND
footprint RESC1608X06N (Chip Resistor, 2-Leads, Body 1.60x0.80mm, IPC Medium Density)
pins: 1, 2

## RES_32_0603
designator R?  Resistance: 32R  (hidden comment: *)
RES SMD 32 OHM 1% 1/8W 0603; Manufacturer: KOA Speer Electronics, Inc.; Manufacturer Part Number: RN73R1JTTD32R0D25; Power Rating: 125mW; Voltage Rating: 75V; Temperature Coefficient: 50ppm/°C; ComponentLink1URL: https://media.digikey.com/pdf/Data%20Sheets/KOA%20Speer/RN73R_Type_DS.pdf; ComponentLink1Description: https://media.digikey.com/pdf/Data%20Sheets/KOA%20Speer/RN73R_Type_DS.pdf; Stock 1: 25793; Pricing 1: 1=0.27, 10=0.229, 100=0.0894, 1000=0.03742, 2500=0.0343 (USD); Case/Package: 0603; Case Code (Metric): 1608; Case Code (Imperial): 0603; Contact Plating: Tin; Min Operating Temperature: -55°C; Max Operating Temperature: 125°C; Package Quantity: 1; Tolerance: 1%; Packaging: Tape and Reel; Composition: Thin Film; Number of Terminations: 2; Military Standard: Not; Max Power Dissipation: 125mW; Voltage Rating (DC): 75V; Length: 0.061inch; Height: 0.022inch; Width: 0.033inch; Depth: 0.85mm; Radiation Hardening: No; REACH SVHC: No SVHC; Lead Free: Lead Free; Supplier 1: Digi-Key
footprint RESC1608X06N (Chip Resistor, 2-Leads, Body 1.60x0.80mm, IPC Medium Density)
pins: 1, 2

## RES_51.1K_0603
designator R?  Resistance: 51.1K  (hidden comment: *)
RESISTOR, 51K1, 0603, FULL REEL; Manufacturer: Panasonic; Manufacturer Part Number: ERA3AEB5112V; Tolerance: 0.1%; Temperature Coefficient: 25ppm/°C; Max Power Dissipation: 100mW; Voltage Rating: 150V; Voltage Rating (DC): 75V; ComponentLink1URL: https://www.rohm.com/datasheet/ESR01MZPF/esr-e; ComponentLink1Description: https://www.rohm.com/datasheet/ESR01MZPF/esr-e; ComponentLink2URL: http://www.farnell.com/datasheets/485442.pdf; ComponentLink2Description: http://www.farnell.com/datasheets/485442.pdf; ComponentLink3URL: http://industrial.panasonic.com/www-data/pdf/AOA0000/AOA0000CE26.pdf; ComponentLink3Description: http://industrial.panasonic.com/www-data/pdf/AOA0000/AOA0000CE26.pdf; ComponentLink4URL: http://uk.rs-online.com/webdocs/0eb1/0900766b80eb1d8c.pdf; ComponentLink4Description: http://uk.rs-online.com/webdocs/0eb1/0900766b80eb1d8c.pdf; ComponentLink5URL: http://www.mouser.com/ds/2/315/AOA0000C237-1100991.pdf; ComponentLink5Description: http://www.mouser.com/ds/2/315/AOA0000C237-1100991.pdf; ComponentLink6URL: http://www.farnell.com/datasheets/2059650.pdf; ComponentLink6Description: http://www.farnell.com/datasheets/2059650.pdf; ComponentLink7URL: http://www.produktinfo.conrad.com/datenblaetter/1100000-1199999/001180886-da-01-en-WIDERSTAND_ERA_0603_22K6_0_1__5000ST.pdf; ComponentLink7Description: http://www.produktinfo.conrad.com/datenblaetter/1100000-1199999/001180886-da-01-en-WIDERSTAND_ERA_0603_22K6_0_1__5000ST.pdf; ComponentLink8URL: http://www.produktinfo.conrad.com/datenblaetter/1100000-1199999/001180942-da-01-en-WIDERSTAND_ERA_0603_121K_0_1__5000ST.pdf; ComponentLink8Description: http://www.produktinfo.conrad.com/datenblaetter/1100000-1199999/001180942-da-01-en-WIDERSTAND_ERA_0603_121K_0_1__5000ST.pdf; Supplier 1: Digi-Key; Stock 1: 106514; Pricing 1: 1=0.35, 10=0.3, 100=0.1172, 1000=0.04906, 2500=0.04498 (USD); Mount: Surface Mount; Case/Package: 0603; Number of Pins: 2; Case Code (Metric): 1608; Case Code (Imperial): 0603; Contact Plating: Tin; Min Operating Temperature: -55°C; Max Operating Temperature: 155°C; Packaging: Tape and Reel; Composition: Metal Film,Thin Film; Number of Terminations: 2; Features: Automotive AEC-Q200; Power Rating: 100mW; Package Quantity: 1; Military Standard: Not; Length: 1.6mm; Height: 0.45mm; Width: 0.8mm; Depth: 0.8mm; Radiation Hardening: No; Lead Free: Lead Free; ComponentLink9URL: http://www.produktinfo.conrad.com/datenblaetter/1100000-1199999/001180914-da-01-en-WIDERSTAND_ERA_0603_51K1_0_1__5000ST.pdf; ComponentLink9Description: http://www.produktinfo.conrad.com/datenblaetter/1100000-1199999/001180914-da-01-en-WIDERSTAND_ERA_0603_51K1_0_1__5000ST.pdf; Supplier Part Number 1: P51.1KDBCT-ND
footprint RESC1608X06N (Chip Resistor, 2-Leads, Body 1.60x0.80mm, IPC Medium Density)
pins: 1, 2

## RES_75_0603
designator R?  Resistance: 75  (hidden comment: *)
RES SMD 75 OHM 1% 1/10W 0603; Manufacturer: Yageo; Manufacturer Part Number: RC0603FR-0775RL; Power Rating: 100mW; Voltage Rating: 50V; Temperature Coefficient: 100ppm/°C; ComponentLink1URL: https://www.rohm.com/datasheet/ESR01MZPF/esr-e; ComponentLink1Description: https://www.rohm.com/datasheet/ESR01MZPF/esr-e; ComponentLink2URL: https://www.alliedelec.com/m/d/623f45ff1957d936ff56d46fd1c28cac.pdf; ComponentLink2Description: https://www.alliedelec.com/m/d/623f45ff1957d936ff56d46fd1c28cac.pdf; ComponentLink3URL: http://www.industrial.panasonic.com/www-data/pdf/AOA0000/AOA0000CE2.pdf; ComponentLink3Description: http://www.industrial.panasonic.com/www-data/pdf/AOA0000/AOA0000CE2.pdf; ComponentLink4URL: http://www.mouser.com/ds/2/315/AOA0000C283-1093288.pdf; ComponentLink4Description: http://www.mouser.com/ds/2/315/AOA0000C283-1093288.pdf; ComponentLink5URL: http://www.farnell.com/datasheets/1678782.pdf; ComponentLink5Description: http://www.farnell.com/datasheets/1678782.pdf; ComponentLink6URL: http://industrial.panasonic.com/www-data/pdf/AOA0000/AOA0000CE2.pdf; ComponentLink6Description: http://industrial.panasonic.com/www-data/pdf/AOA0000/AOA0000CE2.pdf; Supplier 1: Digi-Key; Stock 1: 1988933; Pricing 1: 1=0.1, 10=0.026, 100=0.0107, 1000=0.00478, 2500=0.00415 (USD); Case/Package: 0603; Case Code (Metric): 1608; Case Code (Imperial): 0603; Min Operating Temperature: -55°C; Max Operating Temperature: 155°C; Tolerance: 1%; Package Quantity: 1; Packaging: Tape and Reel; Composition: Thick Film; Number of Terminations: 2; Termination: SMD/SMT; Max Power Dissipation: 100mW; Voltage Rating (DC): 50V; Features: Moisture Resistant; Military Standard: Not; Length: 0.063inch; Height: 0.022inch; Width: 0.031inch; Depth: 0.8mm; Lead Free: Lead Free; REACH SVHC: No SVHC; ComponentLink7URL: http://www.yageo.com/documents/recent/PYu-RC_Group_51_RoHS_L_9.pdf; ComponentLink7Description: http://www.yageo.com/documents/recent/PYu-RC_Group_51_RoHS_L_9.pdf; ComponentLink8URL: http://www.farnell.com/datasheets/443971.pdf; ComponentLink8Description: http://www.farnell.com/datasheets/443971.pdf; ComponentLink9URL: http://documents.rs-components.com/techlib://itc_doclist_GB.htm?stockno=5048417; ComponentLink9Description: http://documents.rs-components.com/techlib://itc_doclist_GB.htm?stockno=5048417; Supplier Part Number 1: 311-75.0HRCT-ND
footprint RESC1608X06N (Chip Resistor, 2-Leads, Body 1.60x0.80mm, IPC Medium Density)
pins: 1, 2

## RES_100_0603
designator R?  Resistance: 100  Supplier Part Number 1: P100DBCT-ND  Supplier Part Number 2: 311-100HRCT-ND  (hidden comment: *)
Res Thin Film 0603 100 Ohm 0.1% 0.1W(1/10W) ±25ppm/C Molded SMD Automotive Punched T/R; Manufacturer: Panasonic; Manufacturer Part Number: ERA-3AEB101V; Power Rating: 100mW; Voltage Rating: 75V; Temperature Coefficient: 25ppm/°C; ComponentLink1URL: https://www.rohm.com/datasheet/ESR01MZPF/esr-e; ComponentLink1Description: https://www.rohm.com/datasheet/ESR01MZPF/esr-e; Stock 1: 511300; Pricing 1: 1=0.35, 10=0.3, 100=0.1172, 1000=0.04906, 2500=0.04498 (USD); Mount: Surface Mount; Case/Package: 0603; Number of Pins: 2; Case Code (Metric): 1608; Case Code (Imperial): 0603; Contact Plating: Tin; Min Operating Temperature: -55°C; Max Operating Temperature: 155°C; Tolerance: 0.1%; Packaging: Tape and Reel; Package Quantity: 5000; Composition: Metal Film,Thin Film; Number of Terminations: 2; Termination: SMD/SMT; Military Standard: Not; Max Power Dissipation: 100mW; Length: 1.6mm; Height: 0.45mm; Width: 0.8mm; Depth: 0.8mm; Radiation Hardening: No; REACH SVHC: No SVHC; ComponentLink2URL: http://www.farnell.com/datasheets/485442.pdf; ComponentLink2Description: http://www.farnell.com/datasheets/485442.pdf; ComponentLink3URL: http://industrial.panasonic.com/www-data/pdf/AOA0000/AOA0000CE26.pdf; ComponentLink3Description: http://industrial.panasonic.com/www-data/pdf/AOA0000/AOA0000CE26.pdf; ComponentLink4URL: http://www.farnell.com/datasheets/2059650.pdf; ComponentLink4Description: http://www.farnell.com/datasheets/2059650.pdf; ComponentLink5URL: http://www.farnell.com/datasheets/39837.pdf; ComponentLink5Description: http://www.farnell.com/datasheets/39837.pdf; ComponentLink6URL: http://uk.rs-online.com/webdocs/0fe2/0900766b80fe20f7.pdf; ComponentLink6Description: http://uk.rs-online.com/webdocs/0fe2/0900766b80fe20f7.pdf; ComponentLink7URL: https://www.alliedelec.com/m/d/b6b0537e86f421aa7f5975bb1d8f429a.pdf; ComponentLink7Description: https://www.alliedelec.com/m/d/b6b0537e86f421aa7f5975bb1d8f429a.pdf; ComponentLink8URL: https://www.distrelec.biz/Web/Downloads/_t/ds/ERA_eng_tds.pdf?mime=application%2Fpdf; ComponentLink8Description: https://www.distrelec.biz/Web/Downloads/_t/ds/ERA_eng_tds.pdf?mime=application%2Fpdf; ComponentLink9URL: http://www.produktinfo.conrad.com/datenblaetter/450000-474999/450355-da-01-en-WIDERSTAND_0603_ERA.pdf; ComponentLink9Description: http://www.produktinfo.conrad.com/datenblaetter/450000-474999/450355-da-01-en-WIDERSTAND_0603_ERA.pdf; Supplier 1: Digi-Key; Supplier 2: Digi-Key
footprint RESC1608X06N (Chip Resistor, 2-Leads, Body 1.60x0.80mm, IPC Medium Density)
pins: 1, 2

## RES_121K_0603
designator R?  Resistance: 121K  (hidden comment: *)
RESISTOR, 121K, 0603, 0.1%, 0.1W; Manufacturer: Panasonic; Manufacturer Part Number: ERA3AEB1213V; Temperature Coefficient: 25ppm/°C; Max Power Dissipation: 100mW; Voltage Rating: 150V; Voltage Rating (DC): 75V; ComponentLink1URL: https://www.rohm.com/datasheet/ESR01MZPF/esr-e; ComponentLink1Description: https://www.rohm.com/datasheet/ESR01MZPF/esr-e; ComponentLink2URL: http://www.farnell.com/datasheets/485442.pdf; ComponentLink2Description: http://www.farnell.com/datasheets/485442.pdf; ComponentLink3URL: http://industrial.panasonic.com/www-data/pdf/AOA0000/AOA0000CE26.pdf; ComponentLink3Description: http://industrial.panasonic.com/www-data/pdf/AOA0000/AOA0000CE26.pdf; ComponentLink4URL: http://uk.rs-online.com/webdocs/0eb1/0900766b80eb1d8c.pdf; ComponentLink4Description: http://uk.rs-online.com/webdocs/0eb1/0900766b80eb1d8c.pdf; ComponentLink5URL: http://www.mouser.com/ds/2/315/AOA0000C237-1100991.pdf; ComponentLink5Description: http://www.mouser.com/ds/2/315/AOA0000C237-1100991.pdf; ComponentLink6URL: http://www.farnell.com/datasheets/2059650.pdf; ComponentLink6Description: http://www.farnell.com/datasheets/2059650.pdf; ComponentLink7URL: http://www.produktinfo.conrad.com/datenblaetter/1100000-1199999/001180886-da-01-en-WIDERSTAND_ERA_0603_22K6_0_1__5000ST.pdf; ComponentLink7Description: http://www.produktinfo.conrad.com/datenblaetter/1100000-1199999/001180886-da-01-en-WIDERSTAND_ERA_0603_22K6_0_1__5000ST.pdf; Supplier 1: Digi-Key; Stock 1: 9108; Pricing 1: 1=0.35, 10=0.3, 100=0.1172, 1000=0.04906, 2500=0.04498 (USD); Mount: Surface Mount; Case/Package: 0603; Number of Pins: 2; Weight: 7.1E-05oz; Case Code (Metric): 1608; Case Code (Imperial): 0603; Contact Plating: Tin; Min Operating Temperature: -55°C; Max Operating Temperature: 155°C; Tolerance: 0.1%; Packaging: Tape and Reel; Composition: Metal Film,Thin Film; Number of Terminations: 2; Features: Automotive AEC-Q200; Power Rating: 100mW; Package Quantity: 1; Military Standard: Not; Termination: SMD/SMT; Length: 1.6mm; Height: 0.45mm; Width: 0.8mm; Depth: 0.8mm; Radiation Hardening: No; Lead Free: Lead Free; REACH SVHC: No SVHC; ComponentLink8URL: http://www.produktinfo.conrad.com/datenblaetter/1100000-1199999/001180942-da-01-en-WIDERSTAND_ERA_0603_121K_0_1__5000ST.pdf; ComponentLink8Description: http://www.produktinfo.conrad.com/datenblaetter/1100000-1199999/001180942-da-01-en-WIDERSTAND_ERA_0603_121K_0_1__5000ST.pdf; Supplier Part Number 1: P121KDBCT-ND
footprint RESC1608X06N (Chip Resistor, 2-Leads, Body 1.60x0.80mm, IPC Medium Density)
pins: 1, 2

## RES_187_0603
designator R?  Resistance: 187  (hidden comment: *)
RESISTOR, THICK FILM, 187OHM, 100mW, ± 1%; Manufacturer: Panasonic; Manufacturer Part Number: ERJ-3EKF1870V; Voltage Rating: 75V; Temperature Coefficient: 100ppm/°C; Voltage Rating (DC): 50V; ComponentLink1URL: https://www.rohm.com/datasheet/ESR01MZPF/esr-e; ComponentLink1Description: https://www.rohm.com/datasheet/ESR01MZPF/esr-e; Supplier 1: Digi-Key; Stock 1: 55439; Pricing 1: 1=0.1, 10=0.065, 100=0.0264, 1000=0.01186, 2500=0.01029 (USD); Mount: Surface Mount; Case/Package: 0603; Weight: 7.1E-05oz; Case Code (Imperial): 0603; Case Code (Metric): 1608; Contact Plating: Tin; Min Operating Temperature: -55°C; Max Operating Temperature: 155°C; Power Rating: 100mW; Tolerance: 1%; Packaging: Tape and Reel; Package Quantity: 1; Composition: Thick Film; Termination: SMD/SMT; Number of Terminations: 2; Military Standard: Not; Max Power Dissipation: 100mW; Features: Automotive AEC-Q200; Length: 1.6mm; Height: 0.45mm; Width: 0.8mm; Depth: 0.8mm; REACH SVHC: No SVHC; Lead Free: Lead Free; ComponentLink2URL: https://www.alliedelec.com/m/d/623f45ff1957d936ff56d46fd1c28cac.pdf; ComponentLink2Description: https://www.alliedelec.com/m/d/623f45ff1957d936ff56d46fd1c28cac.pdf; ComponentLink3URL: http://www.industrial.panasonic.com/www-data/pdf/AOA0000/AOA0000CE2.pdf; ComponentLink3Description: http://www.industrial.panasonic.com/www-data/pdf/AOA0000/AOA0000CE2.pdf; ComponentLink4URL: http://www.mouser.com/ds/2/315/AOA0000C283-1093288.pdf; ComponentLink4Description: http://www.mouser.com/ds/2/315/AOA0000C283-1093288.pdf; ComponentLink5URL: http://www.farnell.com/datasheets/1678782.pdf; ComponentLink5Description: http://www.farnell.com/datasheets/1678782.pdf; ComponentLink6URL: http://industrial.panasonic.com/www-data/pdf/AOA0000/AOA0000CE2.pdf; ComponentLink6Description: http://industrial.panasonic.com/www-data/pdf/AOA0000/AOA0000CE2.pdf; Supplier Part Number 1: P187HCT-ND
footprint RESC1608X06N (Chip Resistor, 2-Leads, Body 1.60x0.80mm, IPC Medium Density)
pins: 1, 2

## RES_240_0603
designator R?  Resistance: 240  Supplier Part Number 1: 24W2812  (hidden comment: *)
Res Thin Film 0603 240 Ohm 0.1% 0.1W(1/10W) ±25ppm/C Molded SMD Automotive Punched T/R; Manufacturer: Panasonic; Manufacturer Part Number: ERA-3AEB101V; Power Rating: 100mW; Voltage Rating: 75V; Temperature Coefficient: 25ppm/°C; ComponentLink1URL: https://www.rohm.com/datasheet/ESR01MZPF/esr-e; ComponentLink1Description: https://www.rohm.com/datasheet/ESR01MZPF/esr-e; Stock 1: 511300; Pricing 1: 1=0.35, 10=0.3, 100=0.1172, 1000=0.04906, 2500=0.04498 (USD); Mount: Surface Mount; Case/Package: 0603; Number of Pins: 2; Case Code (Metric): 1608; Case Code (Imperial): 0603; Contact Plating: Tin; Min Operating Temperature: -55°C; Max Operating Temperature: 155°C; Tolerance: 0.1%; Packaging: Tape and Reel; Package Quantity: 5000; Composition: Metal Film,Thin Film; Number of Terminations: 2; Termination: SMD/SMT; Military Standard: Not; Max Power Dissipation: 100mW; Length: 1.6mm; Height: 0.45mm; Width: 0.8mm; Depth: 0.8mm; Radiation Hardening: No; REACH SVHC: No SVHC; ComponentLink2URL: http://www.farnell.com/datasheets/485442.pdf; ComponentLink2Description: http://www.farnell.com/datasheets/485442.pdf; ComponentLink3URL: http://industrial.panasonic.com/www-data/pdf/AOA0000/AOA0000CE26.pdf; ComponentLink3Description: http://industrial.panasonic.com/www-data/pdf/AOA0000/AOA0000CE26.pdf; ComponentLink4URL: http://www.farnell.com/datasheets/2059650.pdf; ComponentLink4Description: http://www.farnell.com/datasheets/2059650.pdf; ComponentLink5URL: http://www.farnell.com/datasheets/39837.pdf; ComponentLink5Description: http://www.farnell.com/datasheets/39837.pdf; ComponentLink6URL: http://uk.rs-online.com/webdocs/0fe2/0900766b80fe20f7.pdf; ComponentLink6Description: http://uk.rs-online.com/webdocs/0fe2/0900766b80fe20f7.pdf; ComponentLink7URL: https://www.alliedelec.com/m/d/b6b0537e86f421aa7f5975bb1d8f429a.pdf; ComponentLink7Description: https://www.alliedelec.com/m/d/b6b0537e86f421aa7f5975bb1d8f429a.pdf; ComponentLink8URL: https://www.distrelec.biz/Web/Downloads/_t/ds/ERA_eng_tds.pdf?mime=application%2Fpdf; ComponentLink8Description: https://www.distrelec.biz/Web/Downloads/_t/ds/ERA_eng_tds.pdf?mime=application%2Fpdf; ComponentLink9URL: http://www.produktinfo.conrad.com/datenblaetter/450000-474999/450355-da-01-en-WIDERSTAND_0603_ERA.pdf; ComponentLink9Description: http://www.produktinfo.conrad.com/datenblaetter/450000-474999/450355-da-01-en-WIDERSTAND_0603_ERA.pdf; Supplier 1: Newark
footprint RESC1608X06N (Chip Resistor, 2-Leads, Body 1.60x0.80mm, IPC Medium Density)
pins: 1, 2

## RES_330_0603
designator R?  Resistance: 330  (hidden comment: *)
RES SMD 330 OHM 1% 1/10W 0603; Manufacturer: Yageo; Manufacturer Part Number: RC0603FR-07330RL; Voltage Rating (DC): 50V; Power Rating: 100mW; Temperature Coefficient: 100ppm/°C; ComponentLink1URL: https://www.rohm.com/datasheet/ESR01MZPF/esr-e; ComponentLink1Description: https://www.rohm.com/datasheet/ESR01MZPF/esr-e; Supplier 1: Digi-Key; Stock 1: 10110179; Pricing 1: 1=0.1, 10=0.026, 100=0.0107, 1000=0.00478, 2500=0.00415 (USD); Case/Package: 0603; Number of Pins: 2; Case Code (Metric): 1608; Case Code (Imperial): 0603; Min Operating Temperature: -55°C; Max Operating Temperature: 155°C; Tolerance: 1%; Voltage Rating: 50V; Packaging: Tape and Reel; Package Quantity: 1; Composition: Thick Film; Number of Terminations: 2; Termination: SMD/SMT; Max Power Dissipation: 100mW; Features: Moisture Resistant; Length: 1.6mm; Height: 0.45mm; Width: 0.8mm; Depth: 0.8mm; REACH SVHC: No SVHC; Lead Free: Lead Free; ComponentLink2URL: http://www.yageo.com/documents/recent/PYu-RC_Group_51_RoHS_L_9.pdf; ComponentLink2Description: http://www.yageo.com/documents/recent/PYu-RC_Group_51_RoHS_L_9.pdf; ComponentLink3URL: http://www.farnell.com/datasheets/2167052.pdf; ComponentLink3Description: http://www.farnell.com/datasheets/2167052.pdf; ComponentLink4URL: http://www.farnell.com/datasheets/1868787.pdf; ComponentLink4Description: http://www.farnell.com/datasheets/1868787.pdf; ComponentLink5URL: http://www.farnell.com/datasheets/443971.pdf; ComponentLink5Description: http://www.farnell.com/datasheets/443971.pdf; ComponentLink6URL: http://www.farnell.com/datasheets/1686128.pdf; ComponentLink6Description: http://www.farnell.com/datasheets/1686128.pdf; ComponentLink7URL: http://documents.rs-components.com/techlib://itc_doclist_GB.htm?stockno=5046499; ComponentLink7Description: http://documents.rs-components.com/techlib://itc_doclist_GB.htm?stockno=5046499; Supplier Part Number 1: 311-330HRCT-ND
footprint RESC1608X06N (Chip Resistor, 2-Leads, Body 1.60x0.80mm, IPC Medium Density)
pins: 1, 2